# EAGLE library part 612006235221 (library Wurth_Elektronik_Electromechanic_Wire_to_Board_Connectors_rev16a)
WR-BHD 2.54mm Male Angled Box Header High Temperature, 6 Pins=>Code : Con_WTB_BHD_2.54_Male_THT_RS_612006235221 <http://katalog.we-online.de/media/thumbs2/eican/thb_Con_WTB_BHD_2.54_Male_THT_RS_6120xx235221_pf2.jpg> Details see: http://katalog.we-online.de/en/em/612_0xx_235_221 Created 2014-06-05, Karrer Zheng 2014 (C) Würth Elektronik
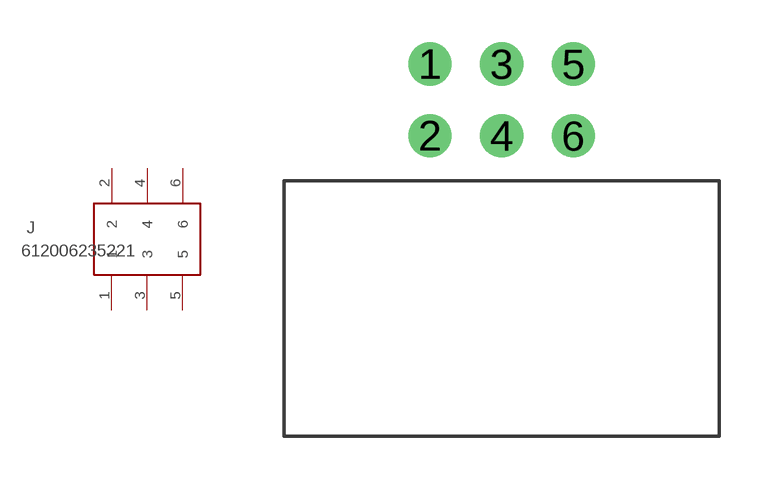
[diagram p114: symbol with the pads of 612006235221; footprint 612006235221]

Designator prefix J

## 612006235221  [612006235221]
1  1  pas
2  2  pas
3  3  pas
4  4  pas
5  5  pas
6  6  pas

## Footprint 612006235221 (pad centres in mm)
WR-BHD 2.54mm Male Angled Box Header High Temperature, 6 Pins
drill 1.02: 1 -2.54,1.27; 2 -2.54,-1.27; 3 0,1.27; 4 0,-1.27; 5 2.54,1.27; 6 2.54,-1.27